# Altium footprint library ValkyrieSHD_PCB.PcbLib: 23 footprints (part 2 of 2)
Each footprint in its own frame and in the unit in brackets; x right, y up, seen from the top. Pads: shape width x height; smd on the part's side, far side on the other; paste and mask are expansions set on the pad; w line width, h text height; cw(c..) or ccw(c..) is an arc to the next point about the centre after c.
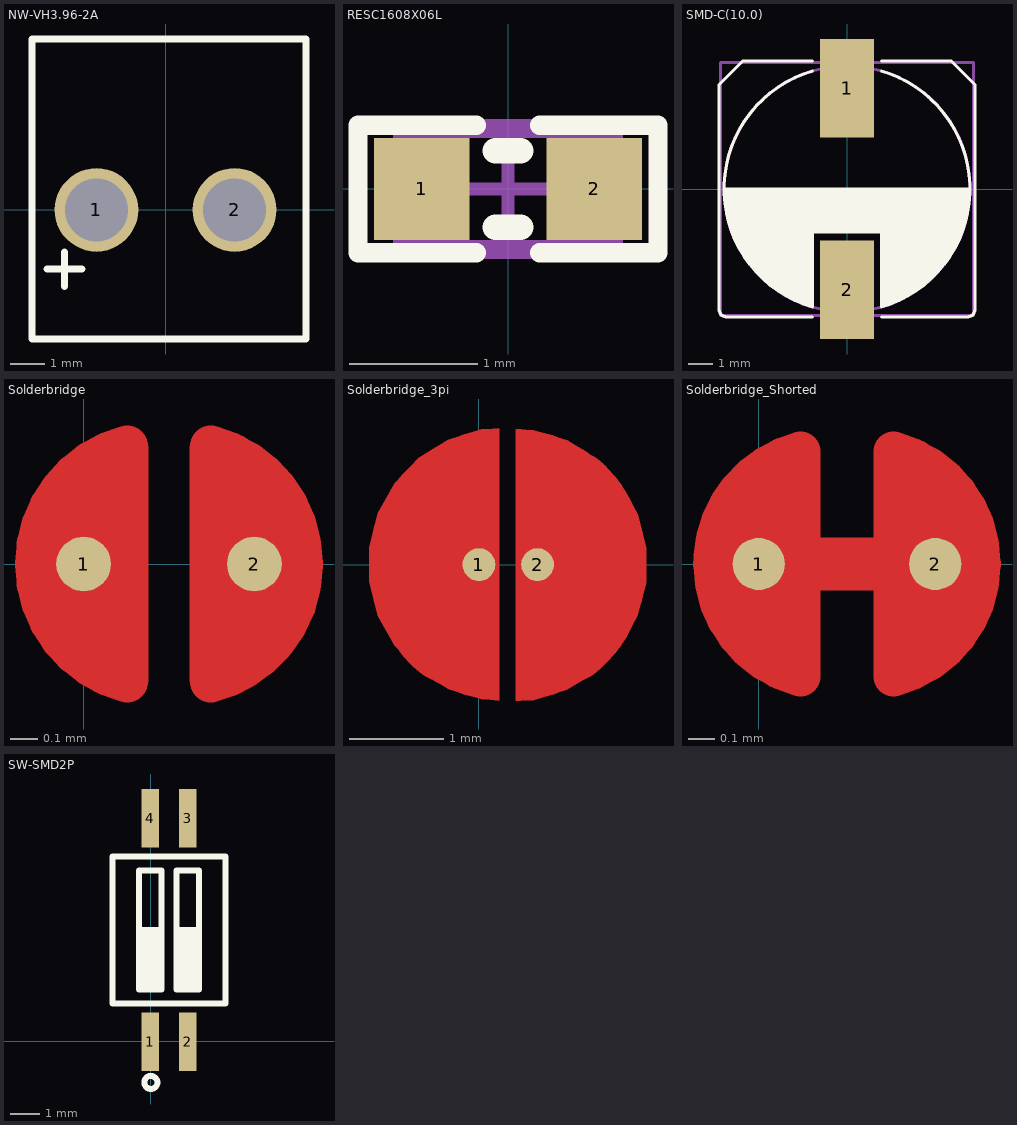
[diagram p1: the footprints below, top view; thin cyan lines are the x and y axes]

## NW-VH3.96-2A [mm]
pads (2):
  round 2.4 hole 1.8: 1(-1.98,0) 2(1.98,0)
Top Overlay:
  lines w0.2: -3.4,-1.7 -2.4,-1.7 ; -2.9,-2.2 -2.9,-1.2 ; -3.83,-3.7 4.03,-3.7 4.03,4.9 -3.83,4.9 -3.83,-3.7
3D body "YAW396-02V-STRAIT.stp": height 13.7, standoff -3.1, extent -3.8,-3.7 4.06,4.9

## RESC1608X06L [mm]
pads (2):
  rect 0.75x0.8 smd: 1(-0.675,0) 2(0.675,0)
Top Overlay:
  lines w0.152: -0.25,-0.5 -1.175,-0.5 -1.175,0.5 -0.25,0.5 ; 0.25,-0.5 1.175,-0.5 1.175,0.5 0.25,0.5
  lines w0.2: -0.1,-0.3 0.1,-0.3 ; -0.1,0.3 0.1,0.3
Mechanical 13:
  lines w0.1: -0.85,-0.45 -0.85,0.45 0.85,0.45 0.85,-0.45 -0.85,-0.45
Mechanical 15:
  lines w0.1: -0.45,0 0.45,0 ; 0,-0.45 0,0.45 ; -1.175,-0.5 1.175,-0.5 1.175,0.5 -1.175,0.5 -1.175,-0.5
3D body "User Library-Chip Inductor.step": height 0.8, standoff 0, extent -0.8,-0.475 0.8,0.475

## SMD-C(10.0) [mm]
pads (2):
  rect 2.2x4 smd: 1(0,4.1) 2(0,-4.1)
Top Overlay:
  lines w0.127: -5,0 5,0 ; -4.9,-0.8 -4.9,0 ; -4.8,-1.3 -4.8,0 ; -4.7,-1.65 -4.7,0 ; -4.6,-1.9 -4.6,0 ; -4.5,-2.1 -4.5,0 ; -4.4,-2.3 -4.4,0 ; -4.35,-2.4 -4.35,0 ; -4.25,-2.6 -4.25,0 ; -4.15,-2.75 -4.15,0 ; -4.05,-2.85 -4.05,0 ; -3.95,-3 -3.95,0 ; -3.85,-3.15 -3.85,0 ; -3.75,-3.25 -3.75,0 ; -3.65,-3.4 -3.65,0 ; -3.55,-3.5 -3.55,0 ; -3.45,-3.6 -3.45,0 ; -3.35,-3.65 -3.35,0 ; -3.25,-3.75 -3.25,0 ; -3.15,-3.85 -3.15,0 ; -3.05,-3.95 -3.05,0 ; -3,-3.95 -3,0 ; -2.9,-4.05 -2.9,0 ; -2.8,-4.05 -2.8,-0.05 ; -2.7,-4.2 -2.7,0 ; -2.667,-4.2 -2.667,0 ; -2.6,-4.25 -2.6,-0.05 ; -2.54,-4.25 -2.54,-0.127 ; -2.5,-4.3 -2.5,0 ; -2.5,-1.4 1.85,-1.4 ; -2.5,-0.6 1.85,-0.6 ; -2.413,-4.35 -2.413,-0.127 ; -2.35,-4.4 -2.35,-0.05 ; -2.286,-4.4 -2.286,0 ; -2.25,-4.45 -2.25,-0.05 ; -2.2,-4.45 -2.2,-0.05 ; -2.159,-4.5 -2.159,0 ; -2.1,-4.5 -2.1,-0.05 ; -2.032,-4.55 -2.032,0 ; -1.95,-4.55 -1.95,-0.05 ; -1.905,-4.6 -1.905,-0.127 ; -1.85,-4.6 -1.85,-0.05 ; -1.75,-4.65 -1.75,-0.05 ; -1.702,-4.65 -1.702,-0.051 ; -1.65,-4.7 -1.65,-0.05 ; -1.6,-4.7 -1.6,-0.05 ; -1.549,-4.75 -1.549,-0.051 ; -1.5,-4.75 -1.5,-0.05 ; -1.405,-4.799 cw(c-0.001,0) -1.396,4.801 ; -1.4,-5.2 -4.9,-5.2 cw(c-4.9,-4.9) -5.2,-4.9 -5.2,4.25 -4.25,5.2 -1.4,5.2 ; -1.4,-1.75 1.4,-1.75 ; -1.4,-1.7 1.4,-1.7 ; -1.4,-1.6 1.4,-1.6 ; -1.4,-1.5 1.6,-1.5 ; -1.4,-1.3 1.4,-1.3 ; -1.4,-1.2 1.4,-1.2 ; -1.4,-1.1 1.4,-1.1 ; -1.4,-1 1.4,-1 ; -1.4,-0.9 1.4,-0.9 ; -1.4,-0.85 1.4,-0.85 ; -1.4,-0.75 1.6,-0.75 ; -1.4,-0.65 1.4,-0.65 ; -1.4,-0.5 1.4,-0.5 ; -1.4,-0.4 1.4,-0.4 ; -1.4,-0.3 1.4,-0.3 ; -1.4,-0.2 1.4,-0.2 ; -1.4,-0.1 1.4,-0.1 ; -1.397,-4.8 -1.397,-0.051 ; 1.396,4.801 cw(c0.001,0) 1.405,-4.799 ; 1.397,-4.8 1.397,0 ; 1.4,-5.2 4.9,-5.2 ccw(c4.9,-4.9) 5.2,-4.9 5.2,4.25 4.25,5.2 1.4,5.2 ; 1.45,-4.75 1.45,-0.05 ; 1.524,-4.7 1.524,0 ; 1.6,-4.65 1.6,0 ; 1.651,-2.286 1.651,0 ; 1.7,-4.65 1.7,0 ; 1.778,-2.159 1.778,0 ; 1.8,-4.65 1.8,0 ; 1.9,-4.6 1.9,0 ; 1.905,-2.032 1.905,0 ; 2,-4.55 2,0 ; 2.032,-1.905 2.032,-0.127 ; 2.1,-4.5 2.1,0 ; 2.159,-1.778 2.159,0 ; 2.2,-4.45 2.2,0 ; 2.286,-1.651 2.286,0 ; 2.3,-4.4 2.3,0 ; 2.4,-4.35 2.4,0 ; 2.413,-1.524 2.413,0 ; 2.5,-4.25 2.5,0 ; 2.54,-1.27 2.54,0 ; 2.6,-4.2 2.6,0 ; 2.667,-1.016 2.667,0 ; 2.7,-4.15 2.7,0 2.7,-0.9 ; 2.794,-0.381 2.794,0 ; 2.8,-4.1 2.8,0 ; 2.9,-4.05 2.9,0 ; 3,-3.95 3,0 ; 3.1,-3.9 3.1,0 ; 3.2,-3.8 3.2,0 ; 3.3,-3.7 3.3,0 ; 3.4,-3.6 3.4,0 ; 3.5,-3.5 3.5,0 ; 3.6,-3.4 3.6,0 ; 3.7,-3.3 3.7,0 ; 3.8,-3.2 3.8,0 ; 3.9,-3.05 3.9,0 ; 4,-2.95 4,0 ; 4.1,-2.8 4.1,0 ; 4.2,-2.65 4.2,0 ; 4.3,-2.5 4.3,0 ; 4.4,-2.3 4.4,0 ; 4.5,-2.1 4.5,0 ; 4.6,-1.9 4.6,0 ; 4.7,-1.6 4.7,0 ; 4.8,-1.3 4.8,0 ; 4.9,-0.8 4.9,0
Mechanical 16:
  circle w0.127: c0,0 r5
  lines w0.127: -5.15,-5.15 -5.15,5.15 5.15,5.15 5.15,-5.15 -5.15,-5.15 ; -0.5,-5.35 -0.5,-2.25 0.5,-2.25 0.5,-5.35 -0.5,-5.35 ; -0.5,2.25 -0.5,5.5 0.5,5.5 0.5,2.25 -0.5,2.25
3D body "UUD1E221MNL1GS--3DModel-STEP-56544.STEP": height 10.5, standoff -0.3, extent -4.25,-4.45 4.05,4.45

## Solderbridge [mm]
pads (2):
  round 0.2 smd paste-10: 1(0,0) 2(0.625,0)
Top Layer:
  region: 0.236,-0.432 0.16,-0.505 0.042,-0.467 -0.023,-0.424 -0.097,-0.351 -0.15,-0.292 -0.208,-0.193 -0.236,-0.099 -0.231,0.122 -0.206,0.193 -0.122,0.33 -0.038,0.411 0.054,0.469 0.155,0.5 0.206,0.483 0.236,0.43
  region: 0.389,0.432 0.465,0.505 0.583,0.467 0.648,0.424 0.721,0.351 0.775,0.292 0.833,0.193 0.861,0.099 0.856,-0.122 0.831,-0.193 0.747,-0.33 0.663,-0.411 0.571,-0.469 0.47,-0.5 0.419,-0.483 0.389,-0.43
  lines w0.152: 0.159,-0.431 cw(c0.27,0) -0.175,0 cw(c0.27,0) 0.025,0.371 cw(c0.27,0) 0.159,0.431 ; 0.465,-0.431 ccw(c0.355,0) 0.582,-0.382 ccw(c0.355,0) 0.774,0.149 ccw(c0.355,0) 0.465,0.431
Top Solder:
  circle w0.61: c0.31,0 r0.279

## Solderbridge_3pi [mm]
pads (2):
  round 0.35 smd paste-10: 1(0,0) 2(0.625,0)
Top Layer:
  region: 0.398,-1.454 0.398,1.439 0.402,1.443 0.587,1.434 0.941,1.325 1.256,1.129 1.512,0.861 1.692,0.537 1.785,0.178 1.785,-0.193 1.691,-0.552 1.51,-0.875 1.253,-1.143 0.938,-1.337 0.583,-1.446
  region: 0.215,-1.446 0.03,-1.438 -0.325,-1.329 -0.64,-1.134 -0.897,-0.867 -1.078,-0.543 -1.172,-0.185 -1.172,0.186 -1.079,0.545 -0.899,0.869 -0.643,1.138 -0.328,1.333 0.026,1.443 0.211,1.451 0.215,1.447
  lines w0.012: 0.211,1.451 ccw(c0.278,0.003) -0.5,1.226 ccw(c0.278,0.003) -0.68,1.091 ccw(c0.278,0.003) -0.68,-1.085 ccw(c0.278,0.003) -0.486,-1.23 ccw(c0.278,0.003) 0.215,-1.446 ; 0.398,-1.454 ccw(c0.335,-0.005) 1.784,0.05 ccw(c0.335,-0.005) 0.402,1.443
  lines w0.013: 0.215,-1.446 0.215,-0.765 0.215,0.668 0.215,1.447 ; 0.398,-1.454 0.398,1.439
  lines w1: -0.351,0.722 ccw(c0.335,-0.005) -0.425,-0.656 ccw(c0.335,-0.005) -0.315,-0.765 ; 0.937,-0.764 ccw(c0.287,-0.004) 1.284,0.081 ccw(c0.287,-0.004) 0.973,0.724
Top Solder:
  circle w0.012: c0.31,0.006 r1.6
  region: -1.29,0.006 -1.29,-0.151 -1.229,-0.46 -1.108,-0.752 -0.933,-1.014 -0.71,-1.237 -0.448,-1.412 -0.157,-1.532 0.152,-1.594 0.31,-1.594 0.467,-1.594 0.777,-1.532 1.068,-1.412 1.33,-1.237 1.553,-1.014 1.728,-0.752 1.848,-0.46 1.91,-0.151 1.91,0.006 1.91,0.164 1.848,0.473 1.728,0.764 1.553,1.026 1.33,1.249 1.068,1.424 0.777,1.545 0.467,1.606 0.31,1.606 0.152,1.606 -0.157,1.545 -0.448,1.424 -0.71,1.249 -0.933,1.026 -1.108,0.764 -1.229,0.473 -1.29,0.164

## Solderbridge_Shorted [mm]
pads (2):
  round 0.2 smd paste-10: 1(0,0) 2(0.676,0)
Top Layer:
  region: 0.236,-0.432 0.16,-0.505 0.042,-0.467 -0.023,-0.424 -0.097,-0.351 -0.15,-0.292 -0.208,-0.193 -0.236,-0.099 -0.231,0.122 -0.206,0.193 -0.122,0.33 -0.038,0.411 0.054,0.469 0.155,0.5 0.206,0.483 0.236,0.43
  region: 0.44,0.432 0.516,0.505 0.634,0.467 0.699,0.424 0.772,0.351 0.826,0.292 0.884,0.193 0.912,0.099 0.907,-0.122 0.881,-0.193 0.798,-0.33 0.714,-0.411 0.622,-0.469 0.521,-0.5 0.47,-0.483 0.44,-0.43
  lines w0.152: 0.159,-0.431 cw(c0.27,0) -0.175,0 cw(c0.27,0) -0.174,0.025 cw(c0.27,0) 0.159,0.431 ; 0.516,-0.431 ccw(c0.406,0) 0.516,0.431
  lines w0.203: 0,0 0.676,0
Top Solder:
  circle w0.61: c0.366,0 r0.279
  circle w0.61: c0.31,0 r0.279

## SW-SMD2P [mm]
pads (4):
  rect 0.6x2 smd: 1(-0.015,-0.01) 2(1.255,-0.01) 3(1.255,7.61) 4(-0.015,7.61)
Top Overlay:
  circle w0.203: c0,-1.4 r0.224
  lines w0.203: -0.396,3.8 0.366,3.8 ; -0.269,1.768 -0.269,3.8 ; -0.142,1.768 -0.142,3.8 ; -0.015,1.768 -0.015,3.8 ; 0.112,1.768 0.112,3.8 ; 0.239,1.768 0.239,3.8 ; 0.874,3.8 1.636,3.8 ; 1.001,1.768 1.001,3.8 ; 1.128,1.768 1.128,3.8 ; 1.255,1.768 1.255,3.8 ; 1.382,1.768 1.382,3.8 ; 1.509,1.768 1.509,3.8 ; -1.3,1.3 -1.3,6.3 2.54,6.3 2.54,1.3 -1.3,1.3 ; -0.396,1.768 0.366,1.768 0.366,5.832 -0.396,5.832 -0.396,1.768 ; 0.874,1.768 1.636,1.768 1.636,5.832 0.874,5.832 0.874,1.768